# Altium schematic symbol library CADDX_passthrough.SchLib: 1 symbol
Pins are listed as number, name and electrical type; pins without a type are passive.

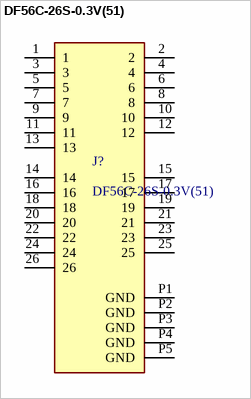
[diagram p0: symbol DF56C-26S-0.3V(51)]

## DF56C-26S-0.3V(51)
designator J?
0.3mm Pitch, Vertical Mating, Board-to-Fine Coaxial Cable, -35 ℃ to 85 ℃, RoHS; Manufacturer: Hirose; Number of Positions: 26; Connector Type: Receptacle; Voltage Rating (AC): 30V; Supplier: Digi-Key; Supplier Part Number: 26-DF56C-26S-0.3V(51)DKR-ND; Manufacturer Part Number: DF56C-26S-0.3V(51); RoHS: Yes; Category: Headers and Wire Housings; Pricing: 1=1.42000, 10=1.23400, 25=1.18160, 50=1.15540, 100=1.10290, 250=0.99788, 500=0.91910, 1000=0.78780, 2500=0.73528 (USD); Mounting Technology: Surface Mount; Contact Material: Bronze; Contact Finish - Mating: GOLD; Insulation Color: Black; Insulation Material: Polymer; Min Operating Temperature: -35°C; Max Operating Temperature: 85°C; Package Quantity: 5000; Packaging: Tape and Reel; Series: DF56; Number of Rows: 1; Fastening Type: Friction; Contact Type: Non-Gendered; Termination: Solder; RoHS Compliant: Yes; Flammability Rating: UL94 V-0; ComponentLink1URL: http://www.mouser.com/ds/2/185/DF56_catalog-939255.pdf?src-supplier=Mouser; ComponentLink1Description: http://www.mouser.com/ds/2/185/DF56_catalog-939255.pdf?src-supplier=Mouser; ComponentLink2URL: https://www.hirose.com/product/document?clcode=CL0662-5607-0-51&amp;productname=DF56-50P-0.3SD(51)&amp;series=DF56&amp;documenttype=Catalog&amp;lang=en&amp;documentid=D49344_en&src-supplier=Digi-Key; ComponentLink2Description: https://www.hirose.com/product/document?clcode=CL0662-5607-0-51&amp;productname=DF56-50P-0.3SD(51)&amp;series=DF56&amp;documenttype=Catalog&amp;lang=en&amp;documentid=D49344_en&src-supplier=Digi-Key
footprint HRS_DF56C-26S-0.3V(51)
pins: 1, 2, 3, 4, 5, 6, 7, 8, 9, 10, 11, 12, 13, 14, 15, 16, 17, 18, 19, 20, 21, 22, 23, 24, 25, 26, P1 GND (power), P2 GND (power), P3 GND (power), P4 GND (power), P5 GND (power)